# EAGLE library part 2X3_THM (library myFab)
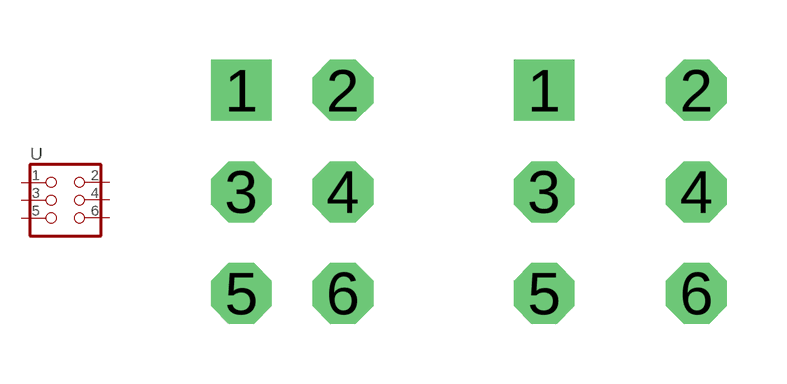
[diagram p36: symbol with the pads of 2X3_THM; footprints 2X3_THM, 2X3_THM_DISTANCED]

Designator prefix -

## 2X3_THMREGULAR  [2X3_THM]
1  1  pas
2  2  pas
3  3  pas
4  4  pas
5  5  pas
6  6  pas

## 2X3_THMDISTANCED  [2X3_THM_DISTANCED]
Pads as for 2X3_THM

## Footprint 2X3_THM (pad centres in mm)
PIN HEADER
drill 1.016 square: 1 -1.27,2.54
drill 1.016 octagon: 2 1.27,2.54; 3 -1.27,0; 4 1.27,0; 5 -1.27,-2.54; 6 1.27,-2.54

## Footprint 2X3_THM_DISTANCED (pad centres in mm)
PIN HEADER
drill 1.016 square: 1 -1.27,2.54
drill 1.016 octagon: 2 2.54,2.54; 3 -1.27,0; 4 2.54,0; 5 -1.27,-2.54; 6 2.54,-2.54